# EAGLE library part YAC512 (library yamaha)
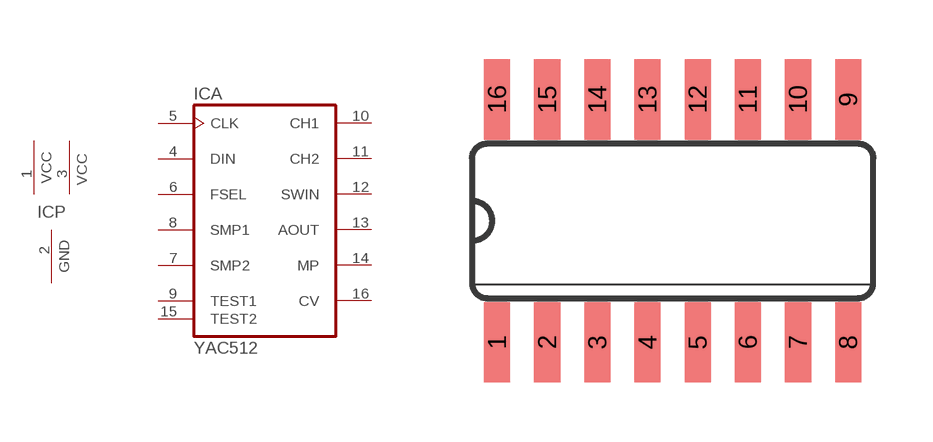
[diagram p1: symbol with the pads of SO16; footprint SO16]

Designator prefix IC; gates A=YAC512 P=PWR2-GND

## YAC512-M  [SO16]
1  P:VCC  pwr
2  P:GND  pwr
3  P:VCC  pwr
4  A:DIN  in
5  A:CLK  in
6  A:FSEL  in
7  A:SMP2  in
8  A:SMP1  in
9  A:TEST1  in
10  A:CH1  out
11  A:CH2  out
12  A:SWIN
13  A:AOUT
14  A:MP  in
15  A:TEST2  in
16  A:CV  in

## Footprint SO16 (pad centres in mm)
Small Outline package 150 mil
smd 0.66 x 2.032: 1 -4.445,-3.073; 2 -3.175,-3.073; 3 -1.905,-3.073; 4 -0.635,-3.073; 5 0.635,-3.073; 6 1.905,-3.073; 7 3.175,-3.073; 8 4.445,-3.073; 9 4.445,3.073; 10 3.175,3.073; 11 1.905,3.073; 12 0.635,3.073; 13 -0.635,3.073; 14 -1.905,3.073; 15 -3.175,3.073; 16 -4.445,3.073